# EAGLE library part HR911105 (library X893)
http://www.terraelectronica.ru/pdf/HANRUN/HR911105A.pdf
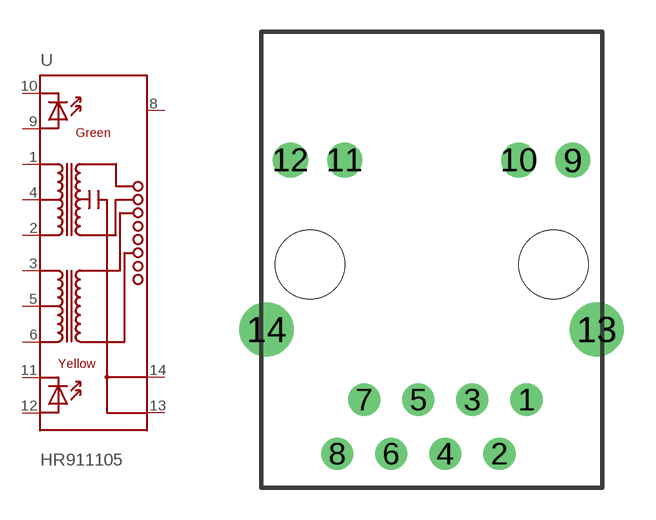
[diagram p98: symbol with the pads of HR911105; footprint HR911105]

Designator prefix -

## HR911105  [HR911105]
1  1  pas
2  2  pas
3  3  pas
4  4  pas
5  5  pas
6  6  pas
8  8  pas
9  9  pas
10  10  pas
11  11  pas
12  12  pas
13  13  pas
14  14  pas

## Footprint HR911105 (pad centres in mm)
http://www.terraelectronica.ru/pdf/HANRUN/HR911105A.pdf
drill 1: 1 4.45,-6.35; 2 3.18,-8.89; 3 1.91,-6.35; 4 0.64,-8.89; 5 -0.63,-6.35; 6 -1.9,-8.89; 7 -3.17,-6.35; 8 -4.44,-8.89
drill 1.1: 9 6.625,4.9; 10 4.085,4.9; 11 -4.085,4.9; 12 -6.625,4.9
drill 1.7: 13 7.745,-3.05; 14 -7.745,-3.05
hole 3.25 at 5.715,0
hole 3.25 at -5.715,0